# Altium integrated library Analog Devices Data Converters Analog-to-Digital Converters.IntLib: 2404 symbols (part 214 of 346)
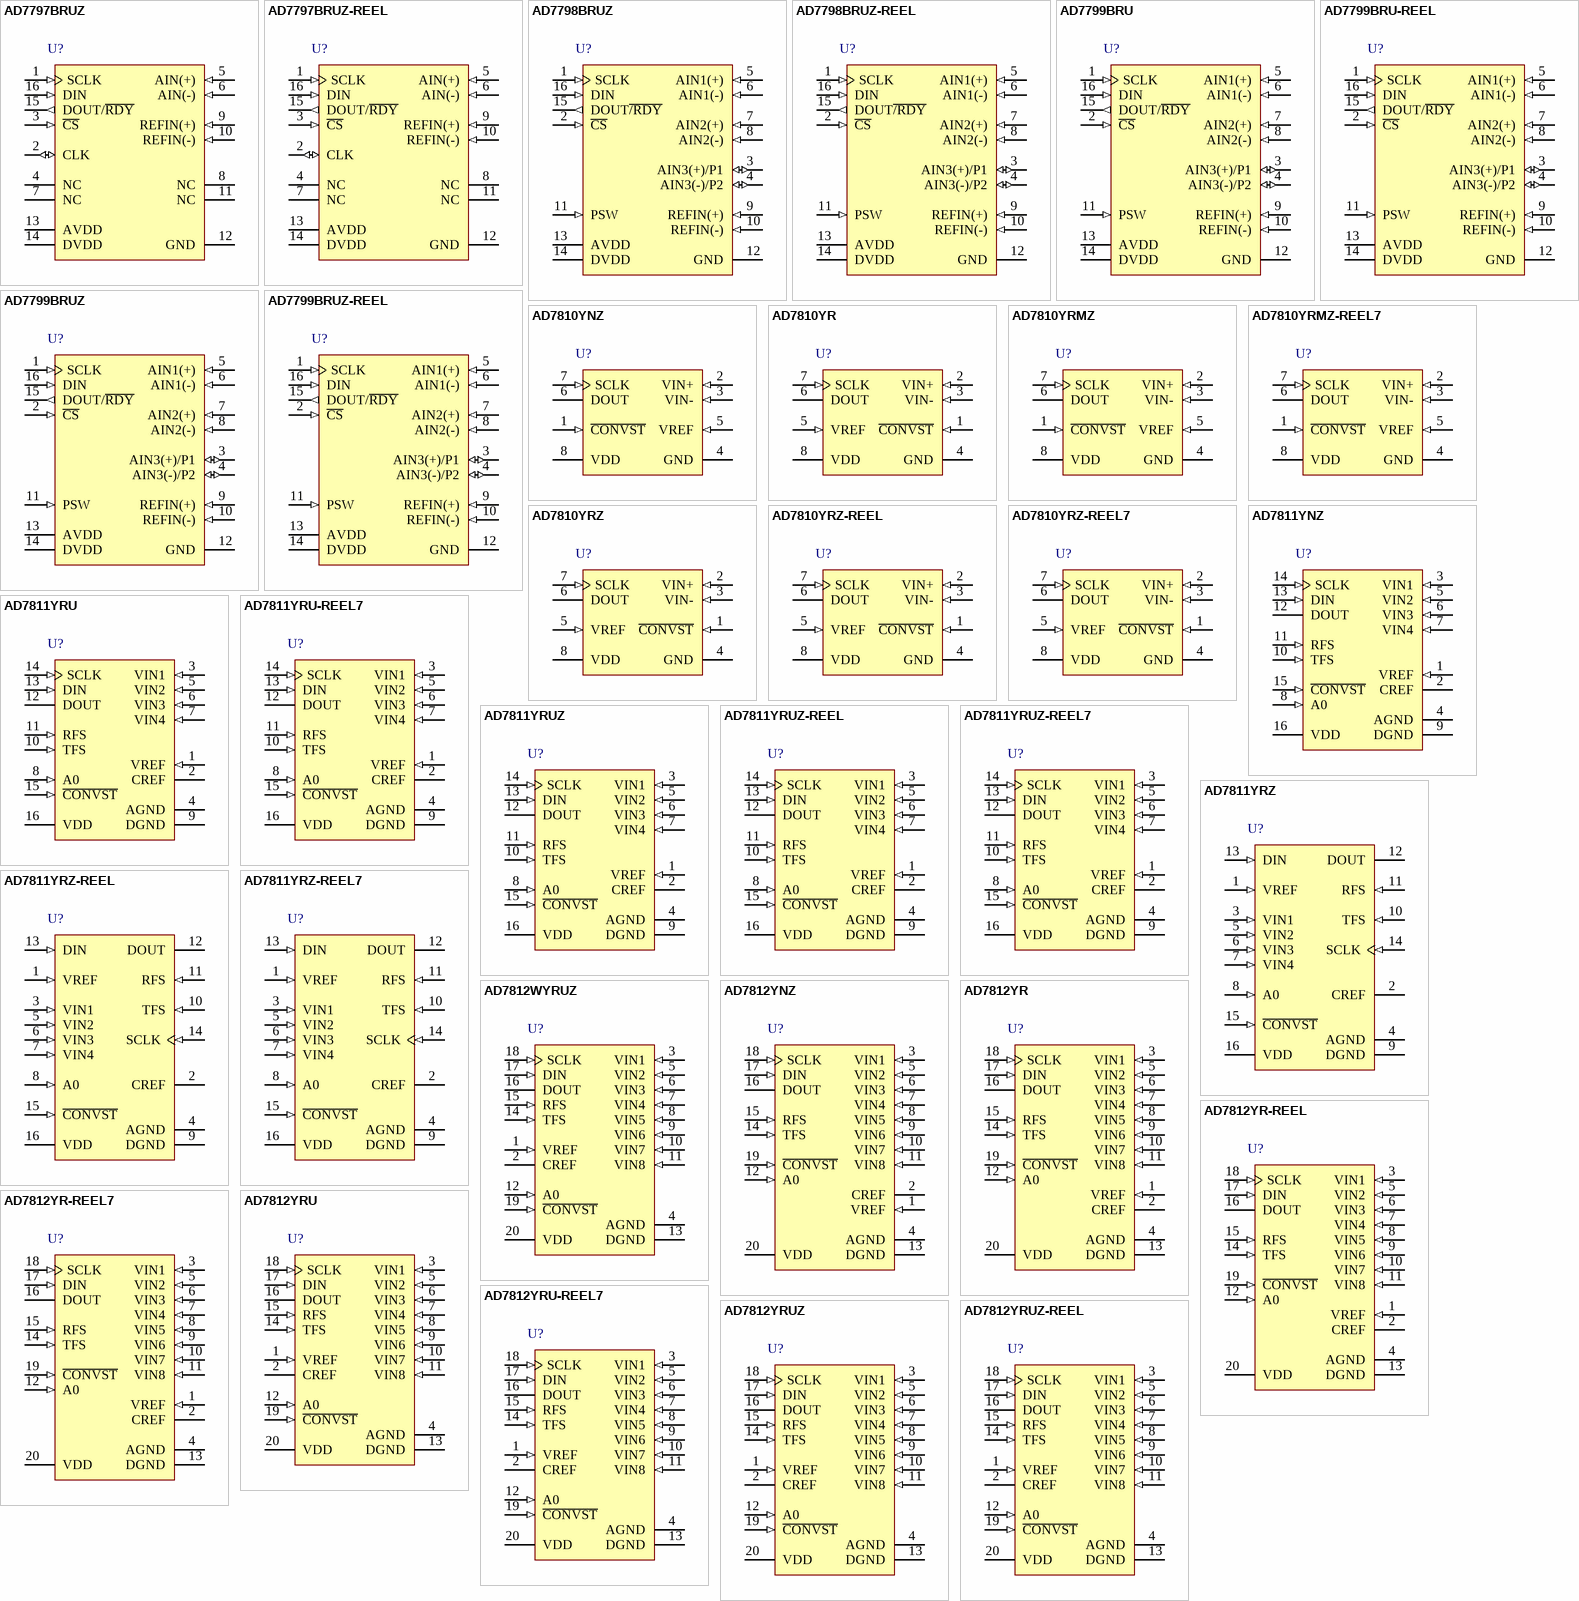
[diagram p270: symbols AD7797BRUZ to AD7812YRUZ-REEL]

## AD7812YRUZ
designator U?
Octal 10-Bit Sampling Analog-to-Digital Converter with Serial Interface, 2.7 V to 5.5 V, 350KSPS, -40 to +105 degC, RU-20, Pb-Free, Tube; Generic Part Number: AD7812; Manufacturer: Analog Devices; PartNumber: AD7812YRUZ; Resolution (Bits): 10; Channels: 8; Throughput Rate (SPS): 350K; Interface: Ser; Automotive Qualified: Yes; DatasheetVersion: Rev.B; PackageVersion: 2000; PackageReference: RU-20; PackageDescription: 20-Lead Thin Shrink Small Outline Package [TSSOP]; Supplier 1: Digi-Key; Supplier Part Number 1: AD7812YRUZ-ND; Supplier 2: Farnell; Supplier Part Number 2: 1423946; Supplier 3: Newark; Supplier Part Number 3: 88H0033; Supplier 4: Mouser; Supplier Part Number 4: 584-AD7812YRUZ; RoHS: Y; Packing: Tube; Mounting Technology: Surface Mount; Code_JEDEC: MO-153AC; ComponentLink1Description: Manufacturer URL; ComponentLink1URL: http://www.analog.com/en/index.html; ComponentLink2Description: Datasheet; ComponentLink2URL: http://www.analog.com/static/imported-files/data_sheets/AD7811_7812.pdf; ComponentLink3Description: Package Specification; ComponentLink3URL: http://www.analog.com/static/imported-files/packages/364515793657813558433715854054607941441RU20.pdf; ComponentLink4Description: Product URL; ComponentLink4URL: http://www.analog.com/en/analog-to-digital-converters/ad-converters/ad7812/products/product.html
footprint RU-20_N (TSOP, 20-Leads, Body 6.5x4.4mm, Pitch 0.65mm, IPC Medium Density)
footprint RU-20_L (TSOP, 20-Leads, Body 6.5x4.4mm, Pitch 0.65mm, IPC High Density)
footprint RU-20_M (TSOP, 20-Leads, Body 6.5x4.4mm, Pitch 0.65mm, IPC Low Density)
pins: 1 VREF (in) "An external reference input can be applied here. When using an external precision reference or VDD the EXTREF bit in the control register must be set to logic one. The external reference input range is 1.2 V to VDD.", 2 CREF "Reference Capacitor. A capacitor (10 nF) is connected here to improve the noise performance of the on-chip reference.", 3 VIN1 (in) "Analog Inputs. The analog input range is 0 V to VREF.", 4 AGND (power) "Analog Ground. Ground reference for track/hold, comparator, on-chip reference and DAC.", 5 VIN2 (in) "Analog Inputs. The analog input range is 0 V to VREF.", 6 VIN3 (in) "Analog Inputs. The analog input range is 0 V to VREF.", 7 VIN4 (in) "Analog Inputs. The analog input range is 0 V to VREF.", 8 VIN5 (in) "Analog Inputs. The analog input range is 0 V to VREF.", 9 VIN6 (in) "Analog Inputs. The analog input range is 0 V to VREF.", 10 VIN7 (in) "Analog Inputs. The analog input range is 0 V to VREF.", 11 VIN8 (in) "Analog Inputs. The analog input range is 0 V to VREF.", 12 A0 (in) "Package Address Pin. This Logic Input can be hardwired high or low. When used in conjunction with the package address bit in the control register this input allows two devices to share the same serial bus. For example a (See Datasheet)", 13 DGND (power) "Digital Ground. Ground reference for digital circuitry.", 14 TFS (in) "Transmit Frame Sync. The falling edge of this Logic Input tells the part that a new control byte should be shifted in on the next 10 falling edges of SCLK.", 15 RFS (in) "Receive Frame Sync. The rising edge of this Logic Input is used to enable a counter in the serial interface. It is used to provide compatibility with DSPs which use a continuous serial clock and framing signal. In (See Datasheet)", 16 DOUT (hiz) "Serial Data Output. Serial data is shifted out on this pin on the rising edge of the serial clock. The output enters a High impedance condition on the rising edge of the 11th SCLK pulse.", 17 DIN (in) "Serial Data Input. The control byte is read in at this input. In order to complete a serial write operation 13 SCLK pulses need to be provided. Only the first 10 bits are shifted in--see Serial Interface section.", 18 SCLK (in) "Serial Clock Input. An external serial clock is applied to this input to obtain serial data from the AD7811/AD7812 and also to latch data into the AD7811/AD7812. Data is clocked out on the rising edge of SCLK and latched in (See Datasheet)", 19 ~{CONVST} (in) "Convert Start. This is an edge triggered logic input. The Track/Hold goes into its Hold Mode on the falling edge of this signal and a conversion is initiated. The state of this pin at the end of conversion also determines (See Datasheet)", 20 VDD (power) "Positive Supply Voltage 2.7 V to 5.5 V."

## AD7812YRUZ-REEL
designator U?
Octal 10-Bit Sampling Analog-to-Digital Converter with Serial Interface, 2.7 V to 5.5 V, 350KSPS, -40 to +105 degC, RU-20, Pb-Free, Reel; Generic Part Number: AD7812; Manufacturer: Analog Devices; PartNumber: AD7812YRUZ-REEL; Resolution (Bits): 10; Channels: 8; Throughput Rate (SPS): 350K; Interface: Ser; Automotive Qualified: Yes; DatasheetVersion: Rev.B; PackageVersion: 2000; PackageReference: RU-20; PackageDescription: 20-Lead Thin Shrink Small Outline Package [TSSOP]; Supplier 1: Digi-Key; Supplier Part Number 1: AD7812YRUZ-REEL-ND; Supplier 2: Mouser; Supplier Part Number 2: 584-AD7812YRUZ-R; RoHS: Y; Packing: Reel; Mounting Technology: Surface Mount; Code_JEDEC: MO-153AC; ComponentLink1Description: Manufacturer URL; ComponentLink1URL: http://www.analog.com/en/index.html; ComponentLink2Description: Datasheet; ComponentLink2URL: http://www.analog.com/static/imported-files/data_sheets/AD7811_7812.pdf; ComponentLink3Description: Package Specification; ComponentLink3URL: http://www.analog.com/static/imported-files/packages/364515793657813558433715854054607941441RU20.pdf; ComponentLink4Description: Product URL; ComponentLink4URL: http://www.analog.com/en/analog-to-digital-converters/ad-converters/ad7812/products/product.html
footprint RU-20_N (TSOP, 20-Leads, Body 6.5x4.4mm, Pitch 0.65mm, IPC Medium Density)
footprint RU-20_L (TSOP, 20-Leads, Body 6.5x4.4mm, Pitch 0.65mm, IPC High Density)
footprint RU-20_M (TSOP, 20-Leads, Body 6.5x4.4mm, Pitch 0.65mm, IPC Low Density)
pins: 1 VREF (in) "An external reference input can be applied here. When using an external precision reference or VDD the EXTREF bit in the control register must be set to logic one. The external reference input range is 1.2 V to VDD.", 2 CREF "Reference Capacitor. A capacitor (10 nF) is connected here to improve the noise performance of the on-chip reference.", 3 VIN1 (in) "Analog Inputs. The analog input range is 0 V to VREF.", 4 AGND (power) "Analog Ground. Ground reference for track/hold, comparator, on-chip reference and DAC.", 5 VIN2 (in) "Analog Inputs. The analog input range is 0 V to VREF.", 6 VIN3 (in) "Analog Inputs. The analog input range is 0 V to VREF.", 7 VIN4 (in) "Analog Inputs. The analog input range is 0 V to VREF.", 8 VIN5 (in) "Analog Inputs. The analog input range is 0 V to VREF.", 9 VIN6 (in) "Analog Inputs. The analog input range is 0 V to VREF.", 10 VIN7 (in) "Analog Inputs. The analog input range is 0 V to VREF.", 11 VIN8 (in) "Analog Inputs. The analog input range is 0 V to VREF.", 12 A0 (in) "Package Address Pin. This Logic Input can be hardwired high or low. When used in conjunction with the package address bit in the control register this input allows two devices to share the same serial bus. For example a (See Datasheet)", 13 DGND (power) "Digital Ground. Ground reference for digital circuitry.", 14 TFS (in) "Transmit Frame Sync. The falling edge of this Logic Input tells the part that a new control byte should be shifted in on the next 10 falling edges of SCLK.", 15 RFS (in) "Receive Frame Sync. The rising edge of this Logic Input is used to enable a counter in the serial interface. It is used to provide compatibility with DSPs which use a continuous serial clock and framing signal. In (See Datasheet)", 16 DOUT (hiz) "Serial Data Output. Serial data is shifted out on this pin on the rising edge of the serial clock. The output enters a High impedance condition on the rising edge of the 11th SCLK pulse.", 17 DIN (in) "Serial Data Input. The control byte is read in at this input. In order to complete a serial write operation 13 SCLK pulses need to be provided. Only the first 10 bits are shifted in--see Serial Interface section.", 18 SCLK (in) "Serial Clock Input. An external serial clock is applied to this input to obtain serial data from the AD7811/AD7812 and also to latch data into the AD7811/AD7812. Data is clocked out on the rising edge of SCLK and latched in (See Datasheet)", 19 ~{CONVST} (in) "Convert Start. This is an edge triggered logic input. The Track/Hold goes into its Hold Mode on the falling edge of this signal and a conversion is initiated. The state of this pin at the end of conversion also determines (See Datasheet)", 20 VDD (power) "Positive Supply Voltage 2.7 V to 5.5 V."

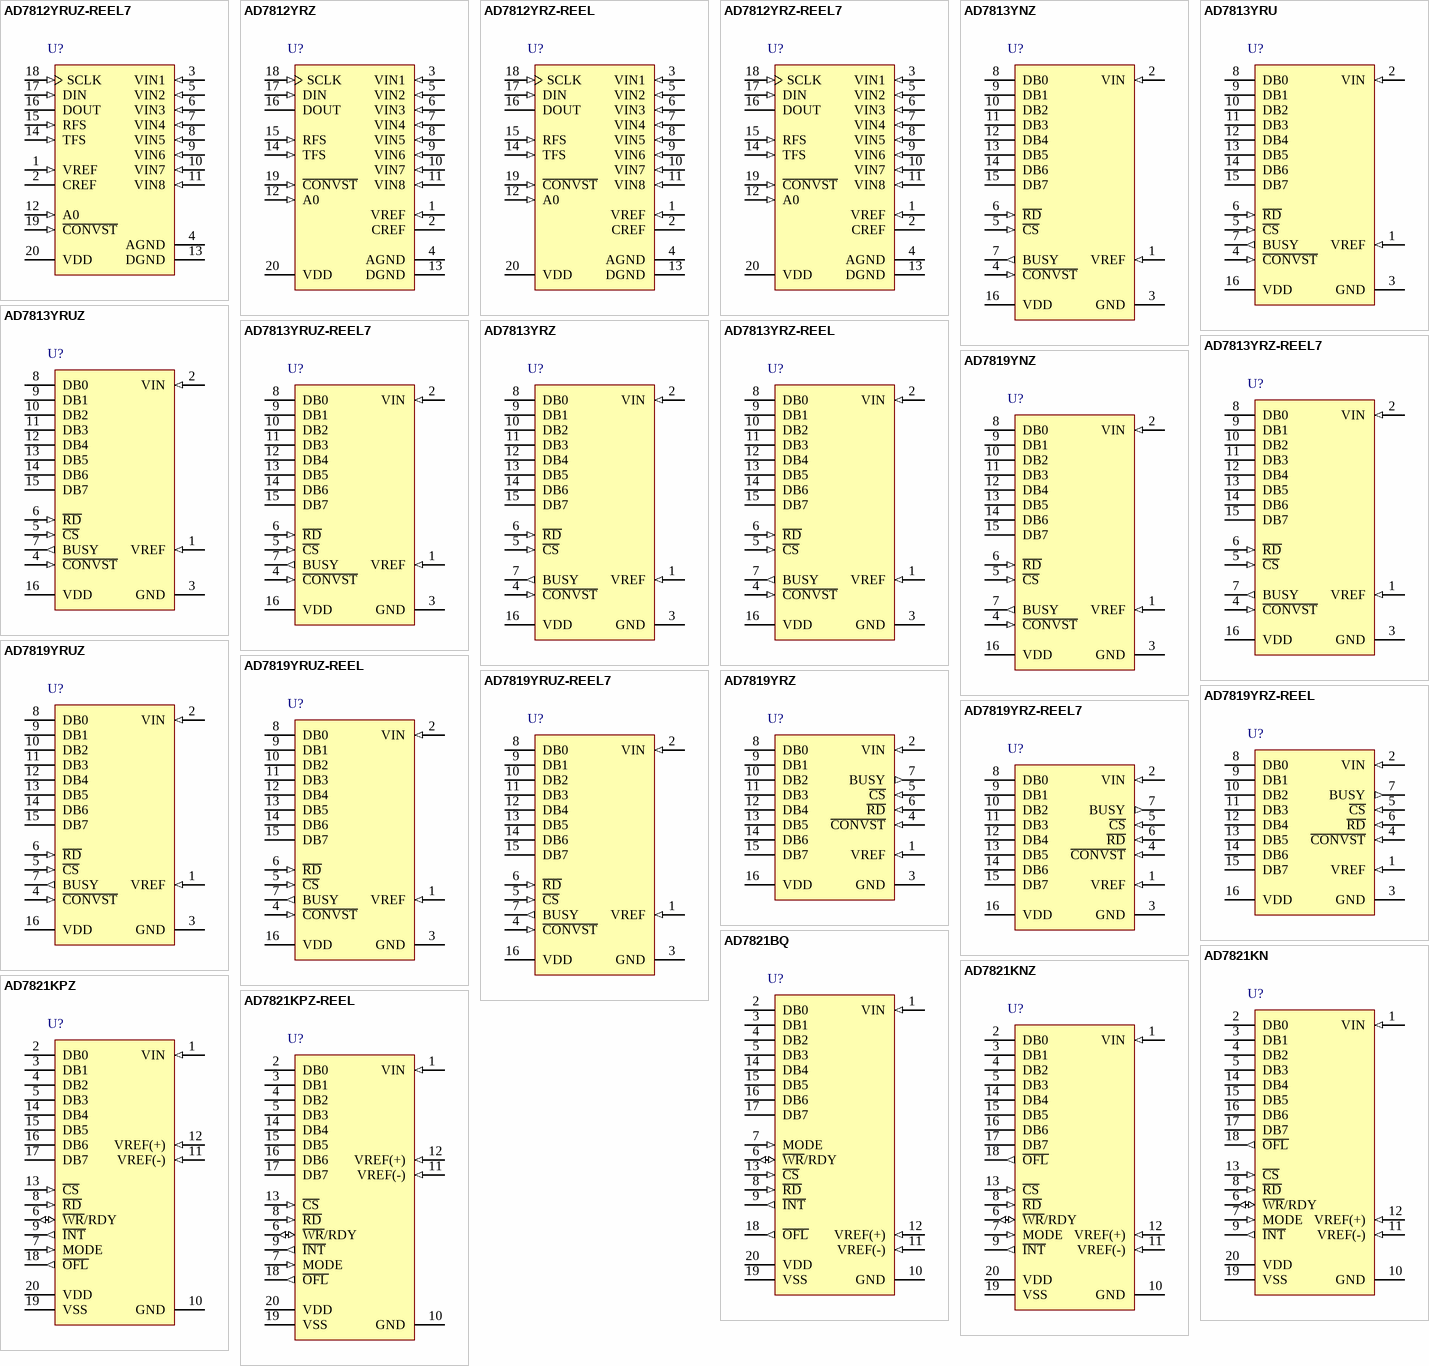
[diagram p64: symbols AD7812YRUZ-REEL7 to AD7821KPZ-REEL]

## AD7812YRUZ-REEL7
designator U?
Octal 10-Bit Sampling Analog-to-Digital Converter with Serial Interface, 2.7 V to 5.5 V, 350KSPS, -40 to +105 degC, RU-20, Pb-Free, Reel; Generic Part Number: AD7812; Manufacturer: Analog Devices; PartNumber: AD7812YRUZ-REEL7; Resolution (Bits): 10; Channels: 8; Throughput Rate (SPS): 350K; Interface: Ser; Automotive Qualified: Yes; DatasheetVersion: Rev.B; PackageVersion: 2000; PackageReference: RU-20; PackageDescription: 20-Lead Thin Shrink Small Outline Package [TSSOP]; Supplier 1: Digi-Key; Supplier Part Number 1: AD7812YRUZ-REEL7-ND; Supplier 2: Newark; Supplier Part Number 2: 12M8940; Supplier 3: Mouser; Supplier Part Number 3: 584-AD7812YRUZ-R7; RoHS: Y; Packing: Reel; Mounting Technology: Surface Mount; Code_JEDEC: MO-153AC; ComponentLink1Description: Manufacturer URL; ComponentLink1URL: http://www.analog.com/en/index.html; ComponentLink2Description: Datasheet; ComponentLink2URL: http://www.analog.com/static/imported-files/data_sheets/AD7811_7812.pdf; ComponentLink3Description: Package Specification; ComponentLink3URL: http://www.analog.com/static/imported-files/packages/364515793657813558433715854054607941441RU20.pdf; ComponentLink4Description: Product URL; ComponentLink4URL: http://www.analog.com/en/analog-to-digital-converters/ad-converters/ad7812/products/product.html
footprint RU-20_N (TSOP, 20-Leads, Body 6.5x4.4mm, Pitch 0.65mm, IPC Medium Density)
footprint RU-20_L (TSOP, 20-Leads, Body 6.5x4.4mm, Pitch 0.65mm, IPC High Density)
footprint RU-20_M (TSOP, 20-Leads, Body 6.5x4.4mm, Pitch 0.65mm, IPC Low Density)
pins: 1 VREF (in) "An external reference input can be applied here. When using an external precision reference or VDD the EXTREF bit in the control register must be set to logic one. The external reference input range is 1.2 V to VDD.", 2 CREF "Reference Capacitor. A capacitor (10 nF) is connected here to improve the noise performance of the on-chip reference.", 3 VIN1 (in) "Analog Inputs. The analog input range is 0 V to VREF.", 4 AGND (power) "Analog Ground. Ground reference for track/hold, comparator, on-chip reference and DAC.", 5 VIN2 (in) "Analog Inputs. The analog input range is 0 V to VREF.", 6 VIN3 (in) "Analog Inputs. The analog input range is 0 V to VREF.", 7 VIN4 (in) "Analog Inputs. The analog input range is 0 V to VREF.", 8 VIN5 (in) "Analog Inputs. The analog input range is 0 V to VREF.", 9 VIN6 (in) "Analog Inputs. The analog input range is 0 V to VREF.", 10 VIN7 (in) "Analog Inputs. The analog input range is 0 V to VREF.", 11 VIN8 (in) "Analog Inputs. The analog input range is 0 V to VREF.", 12 A0 (in) "Package Address Pin. This Logic Input can be hardwired high or low. When used in conjunction with the package address bit in the control register this input allows two devices to share the same serial bus. For example a (See Datasheet)", 13 DGND (power) "Digital Ground. Ground reference for digital circuitry.", 14 TFS (in) "Transmit Frame Sync. The falling edge of this Logic Input tells the part that a new control byte should be shifted in on the next 10 falling edges of SCLK.", 15 RFS (in) "Receive Frame Sync. The rising edge of this Logic Input is used to enable a counter in the serial interface. It is used to provide compatibility with DSPs which use a continuous serial clock and framing signal. In (See Datasheet)", 16 DOUT (hiz) "Serial Data Output. Serial data is shifted out on this pin on the rising edge of the serial clock. The output enters a High impedance condition on the rising edge of the 11th SCLK pulse.", 17 DIN (in) "Serial Data Input. The control byte is read in at this input. In order to complete a serial write operation 13 SCLK pulses need to be provided. Only the first 10 bits are shifted in--see Serial Interface section.", 18 SCLK (in) "Serial Clock Input. An external serial clock is applied to this input to obtain serial data from the AD7811/AD7812 and also to latch data into the AD7811/AD7812. Data is clocked out on the rising edge of SCLK and latched in (See Datasheet)", 19 ~{CONVST} (in) "Convert Start. This is an edge triggered logic input. The Track/Hold goes into its Hold Mode on the falling edge of this signal and a conversion is initiated. The state of this pin at the end of conversion also determines (See Datasheet)", 20 VDD (power) "Positive Supply Voltage 2.7 V to 5.5 V."

## AD7812YRZ
designator U?
Octal 10-Bit Sampling Analog-to-Digital Converter with Serial Interface, 2.7 V to 5.5 V, 350KSPS, -40 to +105 degC, RW-20, Pb-Free, Tube; Generic Part Number: AD7812; Manufacturer: Analog Devices; PartNumber: AD7812YRZ; Resolution (Bits): 10; Channels: 8; Throughput Rate (SPS): 350K; Interface: Ser; Automotive Qualified: Yes; DatasheetVersion: Rev.B; PackageVersion: 060706-A; PackageReference: RW-20; PackageDescription: 20-Lead Standard Small Outline Package [SOIC_W] Wide Body; Supplier 1: Digi-Key; Supplier Part Number 1: AD7812YRZ-ND; Supplier 2: Newark; Supplier Part Number 2: 59K5522; Supplier 3: Mouser; Supplier Part Number 3: 584-AD7812YRZ; RoHS: Y; Packing: Tube; Mounting Technology: Surface Mount; Code_JEDEC: MS-013-AC; ComponentLink1Description: Manufacturer URL; ComponentLink1URL: http://www.analog.com/en/index.html; ComponentLink2Description: Datasheet; ComponentLink2URL: http://www.analog.com/static/imported-files/data_sheets/AD7811_7812.pdf; ComponentLink3Description: Package Specification; ComponentLink3URL: http://www.analog.com/static/imported-files/packages/233848RW_20.pdf; ComponentLink4Description: Product URL; ComponentLink4URL: http://www.analog.com/en/analog-to-digital-converters/ad-converters/ad7812/products/product.html
footprint RW-20_N (SOIC, 20-Leads, Body 12.8x7.5mm, Pitch 1.27mm, IPC Medium Density)
footprint RW-20_L (SOIC, 20-Leads, Body 12.8x7.5mm, Pitch 1.27mm, IPC High Density)
footprint RW-20_M (SOIC, 20-Leads, Body 12.8x7.5mm, Pitch 1.27mm, IPC Low Density)
pins: 1 VREF (in) "An external reference input can be applied here. When using an external precision reference or VDD the EXTREF bit in the control register must be set to logic one. The external reference input range is 1.2 V to VDD.", 2 CREF "Reference Capacitor. A capacitor (10 nF) is connected here to improve the noise performance of the on-chip reference.", 3 VIN1 (in) "Analog Inputs. The analog input range is 0 V to VREF.", 4 AGND (power) "Analog Ground. Ground reference for track/hold, comparator, on-chip reference and DAC.", 5 VIN2 (in) "Analog Inputs. The analog input range is 0 V to VREF.", 6 VIN3 (in) "Analog Inputs. The analog input range is 0 V to VREF.", 7 VIN4 (in) "Analog Inputs. The analog input range is 0 V to VREF.", 8 VIN5 (in) "Analog Inputs. The analog input range is 0 V to VREF.", 9 VIN6 (in) "Analog Inputs. The analog input range is 0 V to VREF.", 10 VIN7 (in) "Analog Inputs. The analog input range is 0 V to VREF.", 11 VIN8 (in) "Analog Inputs. The analog input range is 0 V to VREF.", 12 A0 (in) "Package Address Pin. This Logic Input can be hardwired high or low. When used in conjunction with the package address bit in the control register this input allows two devices to share the same serial bus. For example a (See Datasheet)", 13 DGND (power) "Digital Ground. Ground reference for digital circuitry", 14 TFS (in) "Transmit Frame Sync. The falling edge of this Logic Input tells the part that a new control byte should be shifted in on the next 10 falling edges of SCLK.", 15 RFS (in) "Receive Frame Sync. The rising edge of this Logic Input is used to enable a counter in the serial interface. It is used to provide compatibility with DSPs which use a continuous serial clock and framing signal. In (See Datasheet)", 16 DOUT (hiz) "Serial Data Output. Serial data is shifted out on this pin on the rising edge of the serial clock. The output enters a High impedance condition on the rising edge of the 11th SCLK pulse.", 17 DIN (in) "Serial Data Input. The control byte is read in at this input. In order to complete a serial write operation 13 SCLK pulses need to be provided. Only the first 10 bits are shifted in--see Serial Interface section.", 18 SCLK (in) "Serial Clock Input. An external serial clock is applied to this input to obtain serial data from the AD7811/AD7812 and also to latch data into the AD7811/AD7812. Data is clocked out on the rising edge of SCLK and latched in (See Datasheet)", 19 ~{CONVST} (in) "Convert Start. This is an edge triggered logic input. The Track/Hold goes into its Hold Mode on the falling edge of this signal and a conversion is initiated. The state of this pin at the end of conversion also determines (See Datasheet)", 20 VDD (power) "Positive Supply Voltage 2.7 V to 5.5 V."

## AD7812YRZ-REEL
designator U?
Octal 10-Bit Sampling Analog-to-Digital Converter with Serial Interface, 2.7 V to 5.5 V, 350KSPS, -40 to +105 degC, RW-20, Pb-Free, Reel; Generic Part Number: AD7812; Manufacturer: Analog Devices; PartNumber: AD7812YRZ-REEL; Resolution (Bits): 10; Channels: 8; Throughput Rate (SPS): 350K; Interface: Ser; Automotive Qualified: Yes; DatasheetVersion: Rev.B; PackageVersion: 060706-A; PackageReference: RW-20; PackageDescription: 20-Lead Standard Small Outline Package [SOIC_W] Wide Body; Supplier 1: Digi-Key; Supplier Part Number 1: AD7812YRZ-REEL-ND; Supplier 2: Mouser; Supplier Part Number 2: 584-AD7812YRZ-R; RoHS: Y; Packing: Reel; Mounting Technology: Surface Mount; Code_JEDEC: MS-013-AC; ComponentLink1Description: Manufacturer URL; ComponentLink1URL: http://www.analog.com/en/index.html; ComponentLink2Description: Datasheet; ComponentLink2URL: http://www.analog.com/static/imported-files/data_sheets/AD7811_7812.pdf; ComponentLink3Description: Package Specification; ComponentLink3URL: http://www.analog.com/static/imported-files/packages/233848RW_20.pdf; ComponentLink4Description: Product URL; ComponentLink4URL: http://www.analog.com/en/analog-to-digital-converters/ad-converters/ad7812/products/product.html
footprint RW-20_N (SOIC, 20-Leads, Body 12.8x7.5mm, Pitch 1.27mm, IPC Medium Density)
footprint RW-20_L (SOIC, 20-Leads, Body 12.8x7.5mm, Pitch 1.27mm, IPC High Density)
footprint RW-20_M (SOIC, 20-Leads, Body 12.8x7.5mm, Pitch 1.27mm, IPC Low Density)
pins: 1 VREF (in) "An external reference input can be applied here. When using an external precision reference or VDD the EXTREF bit in the control register must be set to logic one. The external reference input range is 1.2 V to VDD.", 2 CREF "Reference Capacitor. A capacitor (10 nF) is connected here to improve the noise performance of the on-chip reference.", 3 VIN1 (in) "Analog Inputs. The analog input range is 0 V to VREF.", 4 AGND (power) "Analog Ground. Ground reference for track/hold, comparator, on-chip reference and DAC.", 5 VIN2 (in) "Analog Inputs. The analog input range is 0 V to VREF.", 6 VIN3 (in) "Analog Inputs. The analog input range is 0 V to VREF.", 7 VIN4 (in) "Analog Inputs. The analog input range is 0 V to VREF.", 8 VIN5 (in) "Analog Inputs. The analog input range is 0 V to VREF.", 9 VIN6 (in) "Analog Inputs. The analog input range is 0 V to VREF.", 10 VIN7 (in) "Analog Inputs. The analog input range is 0 V to VREF.", 11 VIN8 (in) "Analog Inputs. The analog input range is 0 V to VREF.", 12 A0 (in) "Package Address Pin. This Logic Input can be hardwired high or low. When used in conjunction with the package address bit in the control register this input allows two devices to share the same serial bus. For example a (See Datasheet)", 13 DGND (power) "Digital Ground. Ground reference for digital circuitry", 14 TFS (in) "Transmit Frame Sync. The falling edge of this Logic Input tells the part that a new control byte should be shifted in on the next 10 falling edges of SCLK.", 15 RFS (in) "Receive Frame Sync. The rising edge of this Logic Input is used to enable a counter in the serial interface. It is used to provide compatibility with DSPs which use a continuous serial clock and framing signal. In (See Datasheet)", 16 DOUT (hiz) "Serial Data Output. Serial data is shifted out on this pin on the rising edge of the serial clock. The output enters a High impedance condition on the rising edge of the 11th SCLK pulse.", 17 DIN (in) "Serial Data Input. The control byte is read in at this input. In order to complete a serial write operation 13 SCLK pulses need to be provided. Only the first 10 bits are shifted in--see Serial Interface section.", 18 SCLK (in) "Serial Clock Input. An external serial clock is applied to this input to obtain serial data from the AD7811/AD7812 and also to latch data into the AD7811/AD7812. Data is clocked out on the rising edge of SCLK and latched in (See Datasheet)", 19 ~{CONVST} (in) "Convert Start. This is an edge triggered logic input. The Track/Hold goes into its Hold Mode on the falling edge of this signal and a conversion is initiated. The state of this pin at the end of conversion also determines (See Datasheet)", 20 VDD (power) "Positive Supply Voltage 2.7 V to 5.5 V."

## AD7812YRZ-REEL7
designator U?
Octal 10-Bit Sampling Analog-to-Digital Converter with Serial Interface, 2.7 V to 5.5 V, 350KSPS, -40 to +105 degC, RW-20, Pb-Free, Reel; Generic Part Number: AD7812; Manufacturer: Analog Devices; PartNumber: AD7812YRZ-REEL7; Resolution (Bits): 10; Channels: 8; Throughput Rate (SPS): 350K; Interface: Ser; Automotive Qualified: Yes; DatasheetVersion: Rev.B; PackageVersion: 060706-A; PackageReference: RW-20; PackageDescription: 20-Lead Standard Small Outline Package [SOIC_W] Wide Body; Supplier 1: Digi-Key; Supplier Part Number 1: AD7812YRZ-REEL7-ND; Supplier 2: Mouser; Supplier Part Number 2: 584-AD7812YRZ-R7; RoHS: Y; Packing: Reel; Mounting Technology: Surface Mount; Code_JEDEC: MS-013-AC; ComponentLink1Description: Manufacturer URL; ComponentLink1URL: http://www.analog.com/en/index.html; ComponentLink2Description: Datasheet; ComponentLink2URL: http://www.analog.com/static/imported-files/data_sheets/AD7811_7812.pdf; ComponentLink3Description: Package Specification; ComponentLink3URL: http://www.analog.com/static/imported-files/packages/233848RW_20.pdf; ComponentLink4Description: Product URL; ComponentLink4URL: http://www.analog.com/en/analog-to-digital-converters/ad-converters/ad7812/products/product.html
footprint RW-20_N (SOIC, 20-Leads, Body 12.8x7.5mm, Pitch 1.27mm, IPC Medium Density)
footprint RW-20_L (SOIC, 20-Leads, Body 12.8x7.5mm, Pitch 1.27mm, IPC High Density)
footprint RW-20_M (SOIC, 20-Leads, Body 12.8x7.5mm, Pitch 1.27mm, IPC Low Density)
pins: 1 VREF (in) "An external reference input can be applied here. When using an external precision reference or VDD the EXTREF bit in the control register must be set to logic one. The external reference input range is 1.2 V to VDD.", 2 CREF "Reference Capacitor. A capacitor (10 nF) is connected here to improve the noise performance of the on-chip reference.", 3 VIN1 (in) "Analog Inputs. The analog input range is 0 V to VREF.", 4 AGND (power) "Analog Ground. Ground reference for track/hold, comparator, on-chip reference and DAC.", 5 VIN2 (in) "Analog Inputs. The analog input range is 0 V to VREF.", 6 VIN3 (in) "Analog Inputs. The analog input range is 0 V to VREF.", 7 VIN4 (in) "Analog Inputs. The analog input range is 0 V to VREF.", 8 VIN5 (in) "Analog Inputs. The analog input range is 0 V to VREF.", 9 VIN6 (in) "Analog Inputs. The analog input range is 0 V to VREF.", 10 VIN7 (in) "Analog Inputs. The analog input range is 0 V to VREF.", 11 VIN8 (in) "Analog Inputs. The analog input range is 0 V to VREF.", 12 A0 (in) "Package Address Pin. This Logic Input can be hardwired high or low. When used in conjunction with the package address bit in the control register this input allows two devices to share the same serial bus. For example a (See Datasheet)", 13 DGND (power) "Digital Ground. Ground reference for digital circuitry", 14 TFS (in) "Transmit Frame Sync. The falling edge of this Logic Input tells the part that a new control byte should be shifted in on the next 10 falling edges of SCLK.", 15 RFS (in) "Receive Frame Sync. The rising edge of this Logic Input is used to enable a counter in the serial interface. It is used to provide compatibility with DSPs which use a continuous serial clock and framing signal. In (See Datasheet)", 16 DOUT (hiz) "Serial Data Output. Serial data is shifted out on this pin on the rising edge of the serial clock. The output enters a High impedance condition on the rising edge of the 11th SCLK pulse.", 17 DIN (in) "Serial Data Input. The control byte is read in at this input. In order to complete a serial write operation 13 SCLK pulses need to be provided. Only the first 10 bits are shifted in--see Serial Interface section.", 18 SCLK (in) "Serial Clock Input. An external serial clock is applied to this input to obtain serial data from the AD7811/AD7812 and also to latch data into the AD7811/AD7812. Data is clocked out on the rising edge of SCLK and latched in (See Datasheet)", 19 ~{CONVST} (in) "Convert Start. This is an edge triggered logic input. The Track/Hold goes into its Hold Mode on the falling edge of this signal and a conversion is initiated. The state of this pin at the end of conversion also determines (See Datasheet)", 20 VDD (power) "Positive Supply Voltage 2.7 V to 5.5 V."

## AD7813YNZ
designator U?
Single 10-Bit Analog-to-Digital Converter with Byte Interface, 2.7 V to 5.5 V, 400KSPS, -40 to +105 degC, N-16, Pb-Free, Tube; Generic Part Number: AD7813; Manufacturer: Analog Devices; PartNumber: AD7813YNZ; Resolution (Bits): 10; Channels: 1; Throughput Rate (SPS): 400K; DatasheetVersion: Rev.C; PackageVersion: 070706-A; PackageReference: N-16; PackageDescription: 16-Lead Plastic Dual In-Line Package [PDIP] Narrow Body; Supplier 1: Digi-Key; Supplier Part Number 1: AD7813YNZ-ND; Supplier 2: Farnell; Supplier Part Number 2: 1079302; Supplier 3: Newark; Supplier Part Number 3: 59K5525; Supplier 4: Mouser; Supplier Part Number 4: 584-AD7813YNZ; Interface: Byte; RoHS: Y; Packing: Tube; Mounting Technology: Through-hole; Code_JEDEC: MS-001; ComponentLink1Description: Manufacturer URL; ComponentLink1URL: http://www.analog.com/en/index.html; ComponentLink2Description: Datasheet; ComponentLink2URL: http://www.analog.com/static/imported-files/data_sheets/AD7813.pdf; ComponentLink3Description: Package Specification; ComponentLink3URL: http://www.analog.com/static/imported-files/packages/44768431550332N_16.pdf; ComponentLink4Description: Product URL; ComponentLink4URL: http://www.analog.com/en/analog-to-digital-converters/ad-converters/ad7813/products/product.html
footprint N-16 (DIP, 16-Leads, Row Spacing 7.62mm, Pitch 2.54mm, Body 20.1x6.6mm)
pins: 1 VREF (in) "Reference Input, 1.2 V to VDD.", 2 VIN (in) "Analog Input, 0 V to VREF.", 3 GND (power) "Analog and Digital Ground.", 4 ~{CONVST} (in) "Convert Start. A low-to-high transition on this pin initiates a 1.5 us pulse on an internally generated C\O\N\V\S\T\  signal. A high-to-low transition on this line initiates the conversion process if the internal (See Datasheet)", 5 ~{CS} (in) "Chip Select. This is a logic input. C\S\ is used in conjunction with R\D\ to enable outputs.", 6 ~{RD} (in) "Read Pin. This is a logic input. When C\S\ is low and R\D\ goes low, the DB7-DB0 leave their high impedance state and data is driven onto the data bus.", 7 BUSY (out) "ADC Busy Signal. This is a logic output. This signal goes logic high during the conversion process.", 8 DB0 (hiz) "Data Bit 0. These outputs are three-state TTL-compatible.", 9 DB1 (hiz) "Data Bit 1. These outputs are three-state TTL-compatible.", 10 DB2 (hiz) "Data Bit 2. These outputs are three-state TTL-compatible.", 11 DB3 (hiz) "Data Bit 3. These outputs are three-state TTL-compatible.", 12 DB4 (hiz) "Data Bit 4. These outputs are three-state TTL-compatible.", 13 DB5 (hiz) "Data Bit 5. These outputs are three-state TTL-compatible.", 14 DB6 (hiz) "Data Bit 6. These outputs are three-state TTL-compatible.", 15 DB7 (hiz) "Data Bit 7. These outputs are three-state TTL-compatible.", 16 VDD (power) "Positive power supply voltage, 2.7 V to 5.5 V."

## AD7813YRU
designator U?
Single 10-Bit Analog-to-Digital Converter with Byte Interface, 2.7 V to 5.5 V, 400KSPS, -40 to +105 degC, RU-16, Tube; Generic Part Number: AD7813; Manufacturer: Analog Devices; PartNumber: AD7813YRU; Resolution (Bits): 10; Channels: 1; Throughput Rate (SPS): 400K; DatasheetVersion: Rev.C; PackageVersion: Nov-2002; PackageReference: RU-16; PackageDescription: 16-Lead Thin Shrink Small Outline Package [TSSOP]; Supplier 1: Digi-Key; Supplier Part Number 1: AD7813YRU-ND; Interface: Byte; RoHS: N; Packing: Tube; Mounting Technology: Surface Mount; Code_JEDEC: MO-153-AB; ComponentLink1Description: Manufacturer URL; ComponentLink1URL: http://www.analog.com/en/index.html; ComponentLink2Description: Datasheet; ComponentLink2URL: http://www.analog.com/static/imported-files/data_sheets/AD7813.pdf; ComponentLink3Description: Package Specification; ComponentLink3URL: http://www.analog.com/static/imported-files/packages/36244347913743854010197452789RU16.pdf; ComponentLink4Description: Product URL; ComponentLink4URL: http://www.analog.com/en/analog-to-digital-converters/ad-converters/ad7813/products/product.html
footprint RU-16_N (TSOP, 16-Leads, Body 5x4.4mm, Pitch 0.65mm, IPC Medium Density)
footprint RU-16_L (TSOP, 16-Leads, Body 5x4.4mm, Pitch 0.65mm, IPC High Density)
footprint RU-16_M (TSOP, 16-Leads, Body 5x4.4mm, Pitch 0.65mm, IPC Low Density)
pins: 1 VREF (in) "Reference Input, 1.2 V to VDD.", 2 VIN (in) "Analog Input, 0 V to VREF.", 3 GND (power) "Analog and Digital Ground.", 4 ~{CONVST} (in) "Convert Start. A low-to-high transition on this pin initiates a 1.5 us pulse on an internally generated C\O\N\V\S\T\ signal. A high-to-low transition on this line initiates the conversion process if the internal C\O\N\V\S\T\ (See Datasheet)", 5 ~{CS} (in) "Chip Select. This is a logic input. C\S\ is used in conjunction with R\D\ to enable outputs.", 6 ~{RD} (in) "Read Pin. This is a logic input. When C\S\ is low and R\D\ goes low, the DB7-DB0 leave their high impedance state and data is driven onto the data bus.", 7 BUSY (out) "ADC Busy Signal. This is a logic output. This signal goes logic high during the conversion process.", 8 DB0 (hiz) "Data Bit 0 . These outputs are three-state TTL-compatible.", 9 DB1 (hiz) "Data Bit 1. These outputs are three-state TTL-compatible.", 10 DB2 (hiz) "Data Bit 2. These outputs are three-state TTL-compatible.", 11 DB3 (hiz) "Data Bit 3. These outputs are three-state TTL-compatible.", 12 DB4 (hiz) "Data Bit 4. These outputs are three-state TTL-compatible.", 13 DB5 (hiz) "Data Bit 5. These outputs are three-state TTL-compatible.", 14 DB6 (hiz) "Data Bit 6. These outputs are three-state TTL-compatible.", 15 DB7 (hiz) "Data Bit 7. These outputs are three-state TTL-compatible.", 16 VDD (power) "Positive power supply voltage, 2.7 V to 5.5 V."

## AD7813YRUZ
designator U?
Single 10-Bit Analog-to-Digital Converter with Byte Interface, 2.7 V to 5.5 V, 400KSPS, -40 to +105 degC, RU-16, Pb-Free, Tube; Generic Part Number: AD7813; Manufacturer: Analog Devices; PartNumber: AD7813YRUZ; Resolution (Bits): 10; Channels: 1; Throughput Rate (SPS): 400K; DatasheetVersion: Rev.C; PackageVersion: Nov-2002; PackageReference: RU-16; PackageDescription: 16-Lead Thin Shrink Small Outline Package [TSSOP]; Supplier 1: Digi-Key; Supplier Part Number 1: AD7813YRUZ-ND; Supplier 2: Mouser; Supplier Part Number 2: 584-AD7813YRUZ; Interface: Byte; RoHS: Y; Packing: Tube; Mounting Technology: Surface Mount; Code_JEDEC: MO-153-AB; ComponentLink1Description: Manufacturer URL; ComponentLink1URL: http://www.analog.com/en/index.html; ComponentLink2Description: Datasheet; ComponentLink2URL: http://www.analog.com/static/imported-files/data_sheets/AD7813.pdf; ComponentLink3Description: Package Specification; ComponentLink3URL: http://www.analog.com/static/imported-files/packages/36244347913743854010197452789RU16.pdf; ComponentLink4Description: Product URL; ComponentLink4URL: http://www.analog.com/en/analog-to-digital-converters/ad-converters/ad7813/products/product.html
footprint RU-16_N (TSOP, 16-Leads, Body 5x4.4mm, Pitch 0.65mm, IPC Medium Density)
footprint RU-16_L (TSOP, 16-Leads, Body 5x4.4mm, Pitch 0.65mm, IPC High Density)
footprint RU-16_M (TSOP, 16-Leads, Body 5x4.4mm, Pitch 0.65mm, IPC Low Density)
pins: 1 VREF (in) "Reference Input, 1.2 V to VDD.", 2 VIN (in) "Analog Input, 0 V to VREF.", 3 GND (power) "Analog and Digital Ground.", 4 ~{CONVST} (in) "Convert Start. A low-to-high transition on this pin initiates a 1.5 us pulse on an internally generated C\O\N\V\S\T\ signal. A high-to-low transition on this line initiates the conversion process if the internal C\O\N\V\S\T\ (See Datasheet)", 5 ~{CS} (in) "Chip Select. This is a logic input. C\S\ is used in conjunction with R\D\ to enable outputs.", 6 ~{RD} (in) "Read Pin. This is a logic input. When C\S\ is low and R\D\ goes low, the DB7-DB0 leave their high impedance state and data is driven onto the data bus.", 7 BUSY (out) "ADC Busy Signal. This is a logic output. This signal goes logic high during the conversion process.", 8 DB0 (hiz) "Data Bit 0 . These outputs are three-state TTL-compatible.", 9 DB1 (hiz) "Data Bit 1. These outputs are three-state TTL-compatible.", 10 DB2 (hiz) "Data Bit 2. These outputs are three-state TTL-compatible.", 11 DB3 (hiz) "Data Bit 3. These outputs are three-state TTL-compatible.", 12 DB4 (hiz) "Data Bit 4. These outputs are three-state TTL-compatible.", 13 DB5 (hiz) "Data Bit 5. These outputs are three-state TTL-compatible.", 14 DB6 (hiz) "Data Bit 6. These outputs are three-state TTL-compatible.", 15 DB7 (hiz) "Data Bit 7. These outputs are three-state TTL-compatible.", 16 VDD (power) "Positive power supply voltage, 2.7 V to 5.5 V."

## AD7813YRUZ-REEL7
designator U?
Single 10-Bit Analog-to-Digital Converter with Byte Interface, 2.7 V to 5.5 V, 400KSPS, -40 to +105 degC, RU-16, Pb-Free, Reel; Generic Part Number: AD7813; Manufacturer: Analog Devices; PartNumber: AD7813YRUZ-REEL7; Resolution (Bits): 10; Channels: 1; Throughput Rate (SPS): 400K; DatasheetVersion: Rev.C; PackageVersion: Nov-2002; PackageReference: RU-16; PackageDescription: 16-Lead Thin Shrink Small Outline Package [TSSOP]; Supplier 1: Digi-Key; Supplier Part Number 1: AD7813YRUZ-REEL7-ND; Supplier 2: Mouser; Supplier Part Number 2: 584-AD7813YRUZ-R7; Interface: Byte; RoHS: Y; Packing: Reel; Mounting Technology: Surface Mount; Code_JEDEC: MO-153-AB; ComponentLink1Description: Manufacturer URL; ComponentLink1URL: http://www.analog.com/en/index.html; ComponentLink2Description: Datasheet; ComponentLink2URL: http://www.analog.com/static/imported-files/data_sheets/AD7813.pdf; ComponentLink3Description: Package Specification; ComponentLink3URL: http://www.analog.com/static/imported-files/packages/36244347913743854010197452789RU16.pdf; ComponentLink4Description: Product URL; ComponentLink4URL: http://www.analog.com/en/analog-to-digital-converters/ad-converters/ad7813/products/product.html
footprint RU-16_N (TSOP, 16-Leads, Body 5x4.4mm, Pitch 0.65mm, IPC Medium Density)
footprint RU-16_L (TSOP, 16-Leads, Body 5x4.4mm, Pitch 0.65mm, IPC High Density)
footprint RU-16_M (TSOP, 16-Leads, Body 5x4.4mm, Pitch 0.65mm, IPC Low Density)
pins: 1 VREF (in) "Reference Input, 1.2 V to VDD.", 2 VIN (in) "Analog Input, 0 V to VREF.", 3 GND (power) "Analog and Digital Ground.", 4 ~{CONVST} (in) "Convert Start. A low-to-high transition on this pin initiates a 1.5 us pulse on an internally generated C\O\N\V\S\T\ signal. A high-to-low transition on this line initiates the conversion process if the internal C\O\N\V\S\T\ (See Datasheet)", 5 ~{CS} (in) "Chip Select. This is a logic input. C\S\ is used in conjunction with R\D\ to enable outputs.", 6 ~{RD} (in) "Read Pin. This is a logic input. When C\S\ is low and R\D\ goes low, the DB7-DB0 leave their high impedance state and data is driven onto the data bus.", 7 BUSY (out) "ADC Busy Signal. This is a logic output. This signal goes logic high during the conversion process.", 8 DB0 (hiz) "Data Bit 0 . These outputs are three-state TTL-compatible.", 9 DB1 (hiz) "Data Bit 1. These outputs are three-state TTL-compatible.", 10 DB2 (hiz) "Data Bit 2. These outputs are three-state TTL-compatible.", 11 DB3 (hiz) "Data Bit 3. These outputs are three-state TTL-compatible.", 12 DB4 (hiz) "Data Bit 4. These outputs are three-state TTL-compatible.", 13 DB5 (hiz) "Data Bit 5. These outputs are three-state TTL-compatible.", 14 DB6 (hiz) "Data Bit 6. These outputs are three-state TTL-compatible.", 15 DB7 (hiz) "Data Bit 7. These outputs are three-state TTL-compatible.", 16 VDD (power) "Positive power supply voltage, 2.7 V to 5.5 V."

## AD7813YRZ
designator U?
Single 10-Bit Analog-to-Digital Converter with Byte Interface, 2.7 V to 5.5 V, 400KSPS, -40 to +105 degC, RU-16, Pb-Free, Tube; Generic Part Number: AD7813; Manufacturer: Analog Devices; PartNumber: AD7813YRZ; Resolution (Bits): 10; Channels: 1; Throughput Rate (SPS): 400K; DatasheetVersion: Rev.C; PackageVersion: 060606-A; PackageReference: R-16; PackageDescription: 16-Lead Standard Small Outline Package [SOIC_N] Narrow Body; Supplier 1: Digi-Key; Supplier Part Number 1: AD7813YRZ-ND; Supplier 2: Newark; Supplier Part Number 2: 59K5528; Supplier 3: Mouser; Supplier Part Number 3: 584-AD7813YRZ; Interface: Byte; RoHS: Y; Packing: Tube; Mounting Technology: Surface Mount; Code_JEDEC: MS-012-AC; ComponentLink1Description: Manufacturer URL; ComponentLink1URL: http://www.analog.com/en/index.html; ComponentLink2Description: Datasheet; ComponentLink2URL: http://www.analog.com/static/imported-files/data_sheets/AD7813.pdf; ComponentLink3Description: Package Specification; ComponentLink3URL: http://www.analog.com/static/imported-files/packages/PKG_PDF/SOIC_Narrow%20(R)/R_16.pdf; ComponentLink4Description: Product URL; ComponentLink4URL: http://www.analog.com/en/analog-to-digital-converters/ad-converters/ad7813/products/product.html
footprint R-16_N (SOIC, 16-Leads, Body 9.9x3.9mm, Pitch 1.27mm, IPC Medium Density)
footprint R-16_L (SOIC, 16-Leads, Body 9.9x3.9mm, Pitch 1.27mm, IPC High Density)
footprint R-16_M (SOIC, 16-Leads, Body 9.9x3.9mm, Pitch 1.27mm, IPC Low Density)
pins: 1 VREF (in) "Reference Input, 1.2 V to VDD.", 2 VIN (in) "Analog Input, 0 V to VREF.", 3 GND (power) "Analog and Digital Ground.", 4 ~{CONVST} (in) "Convert Start. A low-to-high transition on this pin initiates a 1.5 us pulse on an internally generated C\O\N\V\S\T\ signal. A high-to-low transition on this line initiates the conversion process if the internal C\O\N\V\S\T\ (See Datasheet)", 5 ~{CS} (in) "Chip Select. This is a logic input. C\S\ is used in conjunction with R\D\ to enable outputs", 6 ~{RD} (in) "Read Pin. This is a logic input. When C\S\ is low and R\D\  goes low, the DB7-DB0 leave their high impedance state and data is driven onto the data bus.", 7 BUSY (out) "ADC Busy Signal. This is a logic output. This signal goes logic high during the conversion process", 8 DB0 (hiz) "Data Bit 0 . These outputs are three-state TTL-compatible.", 9 DB1 (hiz) "Data Bit 1. These outputs are three-state TTL-compatible.", 10 DB2 (hiz) "Data Bit 2. These outputs are three-state TTL-compatible.", 11 DB3 (hiz) "Data Bit 3. These outputs are three-state TTL-compatible.", 12 DB4 (hiz) "Data Bit 4. These outputs are three-state TTL-compatible.", 13 DB5 (hiz) "Data Bit 5. These outputs are three-state TTL-compatible.", 14 DB6 (hiz) "Data Bit 6. These outputs are three-state TTL-compatible.", 15 DB7 (hiz) "Data Bit 7. These outputs are three-state TTL-compatible.", 16 VDD (power) "Positive power supply voltage, 2.7 V to 5.5 V."

## AD7813YRZ-REEL
designator U?
Single 10-Bit Analog-to-Digital Converter with Byte Interface, 2.7 V to 5.5 V, 400KSPS, -40 to +105 degC, R-16, Pb-Free, Reel; Generic Part Number: AD7813; Manufacturer: Analog Devices; PartNumber: AD7813YRZ-REEL; Resolution (Bits): 10; Channels: 1; Throughput Rate (SPS): 400K; DatasheetVersion: Rev.C; PackageVersion: 060606-A; PackageReference: R-16; PackageDescription: 16-Lead Standard Small Outline Package [SOIC_N] Narrow Body; Supplier 1: Digi-Key; Supplier Part Number 1: AD7813YRZ-REEL-ND; Supplier 2: Mouser; Supplier Part Number 2: 584-AD7813YRZ-R; Interface: Byte; RoHS: Y; Packing: Reel; Mounting Technology: Surface Mount; Code_JEDEC: MS-012-AC; ComponentLink1Description: Manufacturer URL; ComponentLink1URL: http://www.analog.com/en/index.html; ComponentLink2Description: Datasheet; ComponentLink2URL: http://www.analog.com/static/imported-files/data_sheets/AD7813.pdf; ComponentLink3Description: Package Specification; ComponentLink3URL: http://www.analog.com/static/imported-files/packages/PKG_PDF/SOIC_Narrow%20(R)/R_16.pdf; ComponentLink4Description: Product URL; ComponentLink4URL: http://www.analog.com/en/analog-to-digital-converters/ad-converters/ad7813/products/product.html
footprint R-16_N (SOIC, 16-Leads, Body 9.9x3.9mm, Pitch 1.27mm, IPC Medium Density)
footprint R-16_L (SOIC, 16-Leads, Body 9.9x3.9mm, Pitch 1.27mm, IPC High Density)
footprint R-16_M (SOIC, 16-Leads, Body 9.9x3.9mm, Pitch 1.27mm, IPC Low Density)
pins: 1 VREF (in) "Reference Input, 1.2 V to VDD.", 2 VIN (in) "Analog Input, 0 V to VREF.", 3 GND (power) "Analog and Digital Ground.", 4 ~{CONVST} (in) "Convert Start. A low-to-high transition on this pin initiates a 1.5 us pulse on an internally generated C\O\N\V\S\T\ signal. A high-to-low transition on this line initiates the conversion process if the internal C\O\N\V\S\T\ (See Datasheet)", 5 ~{CS} (in) "Chip Select. This is a logic input. C\S\ is used in conjunction with R\D\ to enable outputs", 6 ~{RD} (in) "Read Pin. This is a logic input. When C\S\ is low and R\D\  goes low, the DB7-DB0 leave their high impedance state and data is driven onto the data bus.", 7 BUSY (out) "ADC Busy Signal. This is a logic output. This signal goes logic high during the conversion process", 8 DB0 (hiz) "Data Bit 0 . These outputs are three-state TTL-compatible.", 9 DB1 (hiz) "Data Bit 1. These outputs are three-state TTL-compatible.", 10 DB2 (hiz) "Data Bit 2. These outputs are three-state TTL-compatible.", 11 DB3 (hiz) "Data Bit 3. These outputs are three-state TTL-compatible.", 12 DB4 (hiz) "Data Bit 4. These outputs are three-state TTL-compatible.", 13 DB5 (hiz) "Data Bit 5. These outputs are three-state TTL-compatible.", 14 DB6 (hiz) "Data Bit 6. These outputs are three-state TTL-compatible.", 15 DB7 (hiz) "Data Bit 7. These outputs are three-state TTL-compatible.", 16 VDD (power) "Positive power supply voltage, 2.7 V to 5.5 V."

## AD7813YRZ-REEL7
designator U?
Single 10-Bit Analog-to-Digital Converter with Byte Interface, 2.7 V to 5.5 V, 400KSPS, -40 to +105 degC, R-16, Pb-Free, Reel; Generic Part Number: AD7813; Manufacturer: Analog Devices; PartNumber: AD7813YRZ-REEL7; Resolution (Bits): 10; Channels: 1; Throughput Rate (SPS): 400K; DatasheetVersion: Rev.C; PackageVersion: 060606-A; PackageReference: R-16; PackageDescription: 16-Lead Standard Small Outline Package [SOIC_N] Narrow Body; Supplier 1: Digi-Key; Supplier Part Number 1: AD7813YRZ-REEL7-ND; Supplier 2: Mouser; Supplier Part Number 2: 584-AD7813YRZ-R7; Interface: Byte; RoHS: Y; Packing: Reel; Mounting Technology: Surface Mount; Code_JEDEC: MS-012-AC; ComponentLink1Description: Manufacturer URL; ComponentLink1URL: http://www.analog.com/en/index.html; ComponentLink2Description: Datasheet; ComponentLink2URL: http://www.analog.com/static/imported-files/data_sheets/AD7813.pdf; ComponentLink3Description: Package Specification; ComponentLink3URL: http://www.analog.com/static/imported-files/packages/PKG_PDF/SOIC_Narrow%20(R)/R_16.pdf; ComponentLink4Description: Product URL; ComponentLink4URL: http://www.analog.com/en/analog-to-digital-converters/ad-converters/ad7813/products/product.html
footprint R-16_N (SOIC, 16-Leads, Body 9.9x3.9mm, Pitch 1.27mm, IPC Medium Density)
footprint R-16_L (SOIC, 16-Leads, Body 9.9x3.9mm, Pitch 1.27mm, IPC High Density)
footprint R-16_M (SOIC, 16-Leads, Body 9.9x3.9mm, Pitch 1.27mm, IPC Low Density)
pins: 1 VREF (in) "Reference Input, 1.2 V to VDD.", 2 VIN (in) "Analog Input, 0 V to VREF.", 3 GND (power) "Analog and Digital Ground.", 4 ~{CONVST} (in) "Convert Start. A low-to-high transition on this pin initiates a 1.5 us pulse on an internally generated C\O\N\V\S\T\ signal. A high-to-low transition on this line initiates the conversion process if the internal C\O\N\V\S\T\ (See Datasheet)", 5 ~{CS} (in) "Chip Select. This is a logic input. C\S\ is used in conjunction with R\D\ to enable outputs", 6 ~{RD} (in) "Read Pin. This is a logic input. When C\S\ is low and R\D\  goes low, the DB7-DB0 leave their high impedance state and data is driven onto the data bus.", 7 BUSY (out) "ADC Busy Signal. This is a logic output. This signal goes logic high during the conversion process", 8 DB0 (hiz) "Data Bit 0 . These outputs are three-state TTL-compatible.", 9 DB1 (hiz) "Data Bit 1. These outputs are three-state TTL-compatible.", 10 DB2 (hiz) "Data Bit 2. These outputs are three-state TTL-compatible.", 11 DB3 (hiz) "Data Bit 3. These outputs are three-state TTL-compatible.", 12 DB4 (hiz) "Data Bit 4. These outputs are three-state TTL-compatible.", 13 DB5 (hiz) "Data Bit 5. These outputs are three-state TTL-compatible.", 14 DB6 (hiz) "Data Bit 6. These outputs are three-state TTL-compatible.", 15 DB7 (hiz) "Data Bit 7. These outputs are three-state TTL-compatible.", 16 VDD (power) "Positive power supply voltage, 2.7 V to 5.5 V."

## AD7819YNZ
designator U?
Single 8-Bit Analog-to-Digital Converter with Parallel Interface, 2.7 V to 5.5 V, 200KSPS, -40 to +125 degC, N-16, Pb-Free, Tube; Generic Part Number: AD7819; Manufacturer: Analog Devices; PartNumber: AD7819YNZ; Resolution (Bits): 8; Channels: 1; Throughput Rate (SPS): 200K; Interface: Par; DatasheetVersion: Rev.B; PackageVersion: 070706-A; PackageReference: N-16; PackageDescription: 16-Lead Plastic Dual In-Line Package [PDIP] Narrow Body; Supplier 1: Digi-Key; Supplier Part Number 1: AD7819YNZ-ND; Supplier 2: Farnell; Supplier Part Number 2: 1079303; Supplier 3: Newark; Supplier Part Number 3: 59K5561; Supplier 4: Mouser; Supplier Part Number 4: 584-AD7819YNZ; RoHS: Y; Packing: Tube; Mounting Technology: Through-hole; Code_JEDEC: MS-001; ComponentLink1Description: Manufacturer URL; ComponentLink1URL: http://www.analog.com/en/index.html; ComponentLink2Description: Datasheet; ComponentLink2URL: http://www.analog.com/static/imported-files/data_sheets/AD7819.pdf; ComponentLink3Description: Package Specification; ComponentLink3URL: http://www.analog.com/static/imported-files/packages/44768431550332N_16.pdf; ComponentLink4Description: Product URL; ComponentLink4URL: http://www.analog.com/en/analog-to-digital-converters/ad-converters/ad7819/products/product.html
footprint N-16 (DIP, 16-Leads, Row Spacing 7.62mm, Pitch 2.54mm, Body 20.1x6.6mm)
pins: 1 VREF (in) "Reference Input, 1.2 V to VDD.", 2 VIN (in) "Analog Input, 0 V to VREF.", 3 GND (power) "Analog and Digital Ground.", 4 ~{CONVST} (in) "Convert Start. A low-to-high transition on this pin initiates a 1.5 us pulse on an internally generated C\O\N\V\S\T\ signal. A high-to-low transition on this line initiates the conversion process if the internal C\O\N\V\S\T\ (See Datasheet)", 5 ~{CS} (in) "Chip Select. This is a logic input. C\S\ is used in conjunction with R\D\ to enable outputs.", 6 ~{RD} (in) "Read Pin. This is a logic input. When C\S\ is low and R\D\ goes low, the DB7-DB0 leave their high impedance state and data is driven onto the data bus.", 7 BUSY (out) "ADC Busy Signal. This is a logic output. This signal goes logic high during the conversion process.", 8 DB0 (hiz) "Data Bit 0. These outputs are three-state TTL-compatible.", 9 DB1 (hiz) "Data Bit 1. These outputs are three-state TTL-compatible.", 10 DB2 (hiz) "Data Bit 2. These outputs are three-state TTL-compatible.", 11 DB3 (hiz) "Data Bit 3. These outputs are three-state TTL-compatible.", 12 DB4 (hiz) "Data Bit 4. These outputs are three-state TTL-compatible.", 13 DB5 (hiz) "Data Bit 5. These outputs are three-state TTL-compatible.", 14 DB6 (hiz) "Data Bit 6. These outputs are three-state TTL-compatible.", 15 DB7 (hiz) "Data Bit 7. These outputs are three-state TTL-compatible.", 16 VDD (power) "Positive power supply voltage, 2.7 V to 5.5 V."